# EAGLE library part ARDUINO_SHEILD_EXT (library ARDUINO_megaSHEILD_ext)
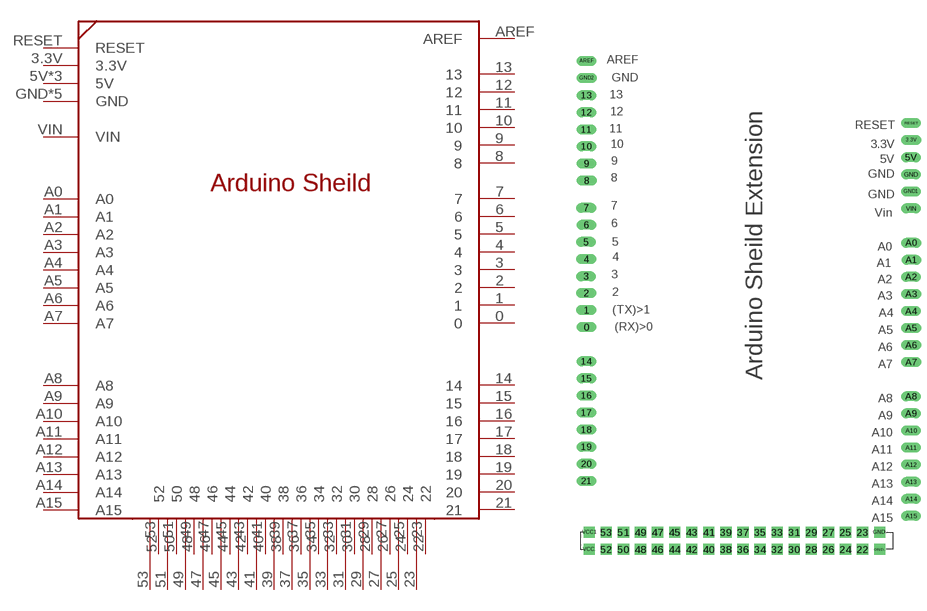
[diagram p0: symbol with the pads of ARDUINO_SHEILD; footprint ARDUINO_SHEILD]

Designator prefix ARDUINO-MEGA-EXT

## ARDUINO_SHEILD_EXT  [ARDUINO_SHEILD]
0  0
1  1
2  2
3  3
3.3V  3.3V
4  4
5  5
5V  5V
6  6
7  7
8  8
9  9
10  10
11  11
12  12
13  13
14  14
15  15
16  16
17  17
18  18
19  19
20  20
21  21
22  22
23  23
24  24
25  25
26  26
27  27
28  28
29  29
30  30
31  31
32  32
33  33
34  34
35  35
36  36
37  37
38  38
39  39
40  40
41  41
42  42
43  43
44  44
45  45
46  46
47  47
48  48
49  49
50  50
51  51
52  52
53  53
A0  A0
A1  A1
A2  A2
A3  A3
A4  A4
A5  A5
A6  A6
A7  A7
A8  A8
A9  A9
A10  A10
A11  A11
A12  A12
A13  A13
A14  A14
A15  A15
AREF  AREF
GND  GND
GND1  GND
GND2  GND
GND.  GND
GND..  GND
RESET  RESET
VCC1  5V
VCC.  5V
VIN  VIN

## Footprint ARDUINO_SHEILD (pad centres in mm)
drill 1 long: 0 -23.06,-9.53; 1 -23.08,-6.99; 2 -23.08,-4.45; 3 -23.1,-1.95; 3.3V 25.24,18.27; 4 -23.08,0.61; 5 -23.1,3.15; 5V 25.2,15.73; 6 -23.06,5.69; 7 -23.08,8.23; 8 -23.02,12.27; 9 -23.04,14.81; 10 -23.04,17.35; 11 -23.06,19.85; 12 -23.04,22.41; 13 -23.06,24.95; 14 -23.06,-14.61; 15 -23.06,-17.15; 16 -23.06,-19.69; 17 -23.06,-22.23; 18 -23.06,-24.77; 19 -23.06,-27.31; 20 -23.06,-29.85; 21 -23.06,-32.39; A0 25.24,3.03; A1 25.26,0.49; A2 25.22,-2.05; A3 25.24,-4.59; A4 25.22,-7.15; A5 25.24,-9.65; A6 25.24,-12.19; A7 25.24,-14.73; A8 25.22,-19.81; A9 25.22,-22.35; A10 25.22,-24.89; A11 25.22,-27.43; A12 25.22,-29.97; A13 25.22,-32.51; A14 25.22,-35.05; A15 25.22,-37.59; AREF -23.04,30.03; GND 25.22,13.19; GND1 25.2,10.63; GND2 -23.02,27.49; RESET 25.22,20.81; VIN 25.22,8.13
drill 1 pad 1.676 square: 22 18,-42.54; 23 18,-40; 24 15.46,-42.54; 25 15.46,-40; 26 12.92,-42.54; 27 12.92,-40; 28 10.38,-42.54; 29 10.38,-40; 30 7.84,-42.54; 31 7.84,-40; 32 5.3,-42.54; 33 5.3,-40; 34 2.76,-42.54; 35 2.76,-40; 36 0.22,-42.54; 37 0.22,-40; 38 -2.32,-42.54; 39 -2.32,-40; 40 -4.86,-42.54; 41 -4.86,-40; 42 -7.4,-42.54; 43 -7.4,-40; 44 -9.94,-42.54; 45 -9.94,-40; 46 -12.48,-42.54; 47 -12.48,-40; 48 -15.02,-42.54; 49 -15.02,-40; 50 -17.56,-42.54; 51 -17.56,-40; 52 -20.1,-42.54; 53 -20.1,-40; GND. 20.54,-40; GND.. 20.54,-42.54; VCC1 -22.64,-40; VCC. -22.64,-42.54